# Altium schematic symbol library TJA1050 .Schlib: 1 symbol
Pins are listed as number, name and electrical type; pins without a type are passive.

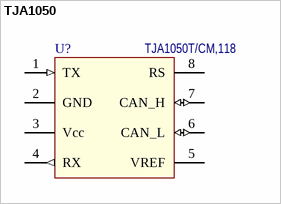
[diagram p0: symbol TJA1050]

## TJA1050
designator U?  Наименование: TJA1050T/CM,118
Isolated CAN Transceiver; Назначение: CAN приемник; Потребление, Вт: 0,001; ComponentLink1Description: Datasheet; ComponentLink1URL: https://static.chipdip.ru/lib/205/DOC000205042.pdf
footprint SOIC-8
pins: 1 TX (in), 2 GND (power), 3 Vcc (power), 4 RX (out), 5 VREF (power), 6 CAN_L (io) "CAN HIGHT", 7 CAN_H (io) "CAN LOW", 8 RS (power)